# EAGLE library part I_PEX (library custom-connectors)
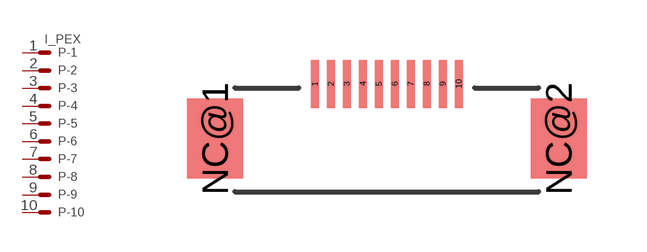
[diagram p20: symbol with the pads of I_PEX_10PIN; footprint I_PEX_10PIN]

Designator prefix P; gates -1=MV -2=M -3=M -4=M -5=M -6=M -7=M -8=M -9=M -10=M

## I_PEX_20374-R10E-31  [I_PEX_10PIN]
1  -1:S  pas
2  -2:S  pas
3  -3:S  pas
4  -4:S  pas
5  -5:S  pas
6  -6:S  pas
7  -7:S  pas
8  -8:S  pas
9  -9:S  pas
10  -10:S  pas

## Footprint I_PEX_10PIN (pad centres in mm)
smd 0.2 x 1.2: 1 -1.8,0; 2 -1.4,0; 3 -1,0; 4 -0.6,0; 5 -0.2,0; 6 0.2,0; 7 0.6,0; 8 1,0; 9 1.4,0; 10 1.8,0
smd 1.4 x 2: NC@1 -4.3,-1.37; NC@2 4.3,-1.37